# Altium footprint library 15453240.pcblib: 1 footprints
Each footprint in its own frame and in the unit in brackets; x right, y up, seen from the top. Pads: shape width x height; smd on the part's side, far side on the other; paste and mask are expansions set on the pad; w line width, h text height; cw(c..) or ccw(c..) is an arc to the next point about the centre after c.
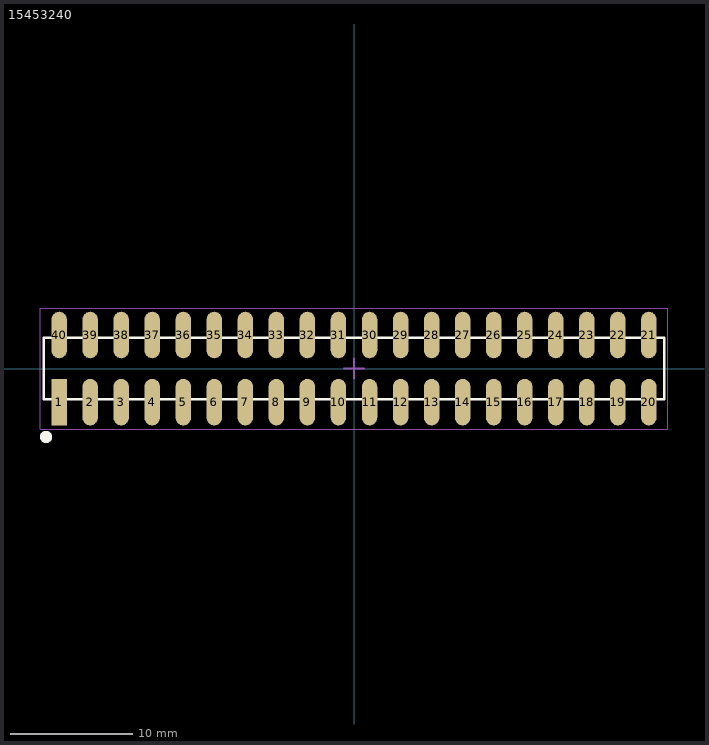
[diagram p0: the footprint, top view; thin cyan lines are the x and y axes]

## 15453240 [mm] "BGA, 81-Leads, Body 11,00x11,00mmx3,50mm, Pitch 1,00mm"
height 3.5
pads (40):
  rect 1.27x3.81 smd paste+0: 1(-24.13,-2.745)
  oval 1.27x3.81 smd: 2(-21.59,-2.745) 3(-19.05,-2.745) 4(-16.51,-2.745) 5(-13.97,-2.745) 6(-11.43,-2.745) 7(-8.89,-2.745) 8(-6.35,-2.745) 9(-3.81,-2.745) 10(-1.27,-2.745) 11(1.27,-2.745) 12(3.81,-2.745) 13(6.35,-2.745) 14(8.89,-2.745) 15(11.43,-2.745) 16(13.97,-2.745) 17(16.51,-2.745) 18(19.05,-2.745) 19(21.59,-2.745) 20(24.13,-2.745) 21(24.13,2.745) 22(21.59,2.745) 23(19.05,2.745) 24(16.51,2.745) 25(13.97,2.745) 26(11.43,2.745) 27(8.89,2.745) 28(6.35,2.745) 29(3.81,2.745) 30(1.27,2.745) 31(-1.27,2.745) 32(-3.81,2.745) 33(-6.35,2.745) 34(-8.89,2.745) 35(-11.43,2.745) 36(-13.97,2.745) 37(-16.51,2.745) 38(-19.05,2.745) 39(-21.59,2.745) 40(-24.13,2.745)
Top Overlay:
  circle w0.5: c-25.197,-5.591 r0.25
  lines w0.2: -25.385,-2.525 -25.385,2.525 25.385,2.525 25.385,-2.525 -25.385,-2.525
Mechanical 7:
  text ".Comment" at 0.947,5.805 h1.2
Mechanical 9:
  text ".Designator" at -0.898,5.849 h1.2
Mechanical 15:
  lines w0.1: -25.685,-4.95 25.685,-4.95 25.685,4.95 -25.685,4.95 -25.685,-4.95
  lines w0.15: -0.837,0 0,0 ; 0,-0.837 0,0 ; 0,0.837 0,0 ; 0.837,0 0,0
3D body "15453240.sldprt": height 9.35, standoff 0, extent -25.387,-3.378 25.387,3.378